# Altium footprint library CAPAE1280X1400N.PcbLib: 1 footprints
Each footprint in its own frame and in the unit in brackets; x right, y up, seen from the top. Pads: shape width x height; smd on the part's side, far side on the other; paste and mask are expansions set on the pad; w line width, h text height; cw(c..) or ccw(c..) is an arc to the next point about the centre after c.
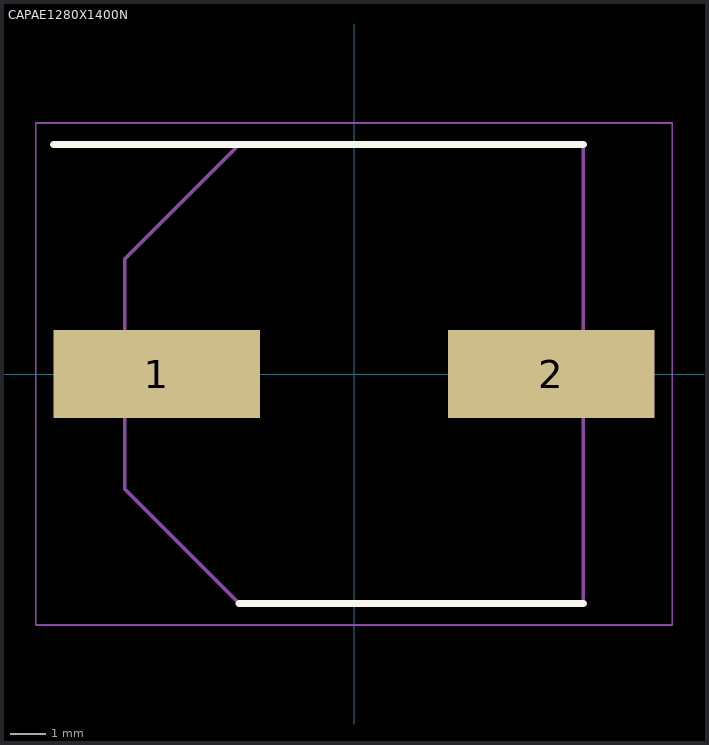
[diagram p0: the footprint, top view; thin cyan lines are the x and y axes]

## CAPAE1280X1400N [mm]
pads (2):
  rect 5.75x2.45 smd: 1(-5.5,0) 2(5.5,0)
Top Overlay:
  lines w0.2: -8.375,6.4 6.4,6.4 ; -3.2,-6.4 6.4,-6.4
Mechanical 15:
  lines w0.1: -6.4,-3.2 -6.4,3.2 -3.2,6.4 6.4,6.4 6.4,-6.4 -3.2,-6.4 -6.4,-3.2
Mechanical 20:
  lines w0.05: -8.875,-7 8.875,-7 8.875,7 -8.875,7 -8.875,-7